# EAGLE library part MICROBUILDER_RASPBERRYPI_BPLUS (library Adafruit Servo HAT rev A)
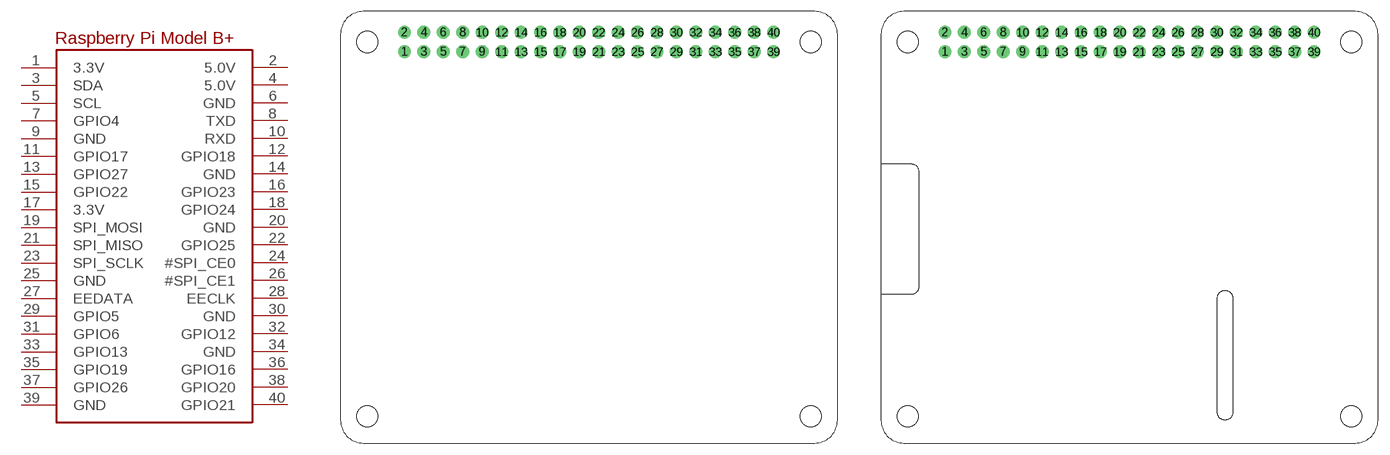
[diagram p4: symbol with the pads of MICROBUILDER_PI_HAT_NOSLOTS; footprints MICROBUILDER_PI_HAT_NOSLOTS, MICROBUILDER_PI_HAT_SLOTS]

Designator prefix RPI

## MICROBUILDER_RASPBERRYPI_BPLUS_HATNOSLOTS  [MICROBUILDER_PI_HAT_NOSLOTS]
1  3.3V  sup
2  5.0V  sup
3  SDA
4  5.0V  sup
5  SCL
6  GND  sup
7  GPIO4
8  TXD  out
9  GND  sup
10  RXD
11  GPIO17
12  GPIO18
13  GPIO27
14  GND  sup
15  GPIO22
16  GPIO23
17  3.3V  sup
18  GPIO24
19  SPI_MOSI
20  GND  sup
21  SPI_MISO
22  GPIO25
23  SPI_SCLK
24  #SPI_CE0
25  GND  sup
26  #SPI_CE1
27  EEDATA
28  EECLK  sup
29  GPIO5
30  GND
31  GPIO6  sup
32  GPIO12
33  GPIO13
34  GND
35  GPIO19
36  GPIO16  sup
37  GPIO26
38  GPIO20
39  GND  sup
40  GPIO21

## MICROBUILDER_RASPBERRYPI_BPLUS_HATSLOTS  [MICROBUILDER_PI_HAT_SLOTS]
Pads as for MICROBUILDER_PI_HAT_NOSLOTS

## MICROBUILDER_RASPBERRYPI_BPLUS_SHIELD  [MICROBUILDER_RASPBERRYPI_BPLUS_SHIELD]
Pads as for MICROBUILDER_PI_HAT_NOSLOTS

## Footprint MICROBUILDER_PI_HAT_NOSLOTS (pad centres in mm)
drill 0.9 pad 1.676: 1 8.37,51.23; 2 8.37,53.77; 3 10.91,51.23; 4 10.91,53.77; 5 13.45,51.23; 6 13.45,53.77; 7 15.99,51.23; 8 15.99,53.77; 9 18.53,51.23; 10 18.53,53.77; 11 21.07,51.23; 12 21.07,53.77; 13 23.61,51.23; 14 23.61,53.77; 15 26.15,51.23; 16 26.15,53.77; 17 28.69,51.23; 18 28.69,53.77; 19 31.23,51.23; 20 31.23,53.77; 21 33.77,51.23; 22 33.77,53.77; 23 36.31,51.23; 24 36.31,53.77; 25 38.85,51.23; 26 38.85,53.77; 27 41.39,51.23; 28 41.39,53.77; 29 43.93,51.23; 30 43.93,53.77; 31 46.47,51.23; 32 46.47,53.77; 33 49.01,51.23; 34 49.01,53.77; 35 51.55,51.23; 36 51.55,53.77; 37 54.09,51.23; 38 54.09,53.77; 39 56.63,51.23; 40 56.63,53.77
hole 2.8 at 3.5,3.5
hole 2.8 at 3.5,52.5
hole 2.8 at 61.5,52.5
hole 2.8 at 61.5,3.5

## Footprint MICROBUILDER_PI_HAT_SLOTS (pad centres in mm)
drill 0.9 pad 1.676: 1 8.37,51.23; 2 8.37,53.77; 3 10.91,51.23; 4 10.91,53.77; 5 13.45,51.23; 6 13.45,53.77; 7 15.99,51.23; 8 15.99,53.77; 9 18.53,51.23; 10 18.53,53.77; 11 21.07,51.23; 12 21.07,53.77; 13 23.61,51.23; 14 23.61,53.77; 15 26.15,51.23; 16 26.15,53.77; 17 28.69,51.23; 18 28.69,53.77; 19 31.23,51.23; 20 31.23,53.77; 21 33.77,51.23; 22 33.77,53.77; 23 36.31,51.23; 24 36.31,53.77; 25 38.85,51.23; 26 38.85,53.77; 27 41.39,51.23; 28 41.39,53.77; 29 43.93,51.23; 30 43.93,53.77; 31 46.47,51.23; 32 46.47,53.77; 33 49.01,51.23; 34 49.01,53.77; 35 51.55,51.23; 36 51.55,53.77; 37 54.09,51.23; 38 54.09,53.77; 39 56.63,51.23; 40 56.63,53.77
hole 2.8 at 3.5,3.5
hole 2.8 at 3.5,52.5
hole 2.8 at 61.5,52.5
hole 2.8 at 61.5,3.5

## Footprint MICROBUILDER_RASPBERRYPI_BPLUS_SHIELD (pad centres in mm)
drill 1 pad 1.676 square: 1 51.315,76.835
drill 1 pad 1.676: 2 53.855,76.835; 3 51.315,74.295; 4 53.855,74.295; 5 51.315,71.755; 6 53.855,71.755; 7 51.315,69.215; 8 53.855,69.215; 9 51.315,66.675; 10 53.855,66.675; 11 51.315,64.135; 12 53.855,64.135; 13 51.315,61.595; 14 53.855,61.595; 15 51.315,59.055; 16 53.855,59.055; 17 51.315,56.515; 18 53.855,56.515; 19 51.315,53.975; 20 53.855,53.975; 21 51.315,51.435; 22 53.855,51.435; 23 51.315,48.895; 24 53.855,48.895; 25 51.315,46.355; 26 53.855,46.355; 27 51.315,43.815; 28 53.855,43.815; 29 51.315,41.275; 30 53.855,41.275; 31 51.315,38.735; 32 53.855,38.735; 33 51.315,36.195; 34 53.855,36.195; 35 51.315,33.655; 36 53.855,33.655; 37 51.315,31.115; 38 53.855,31.115; 39 51.315,28.575; 40 53.855,28.575